# EAGLE library part NANO (library MECH223)
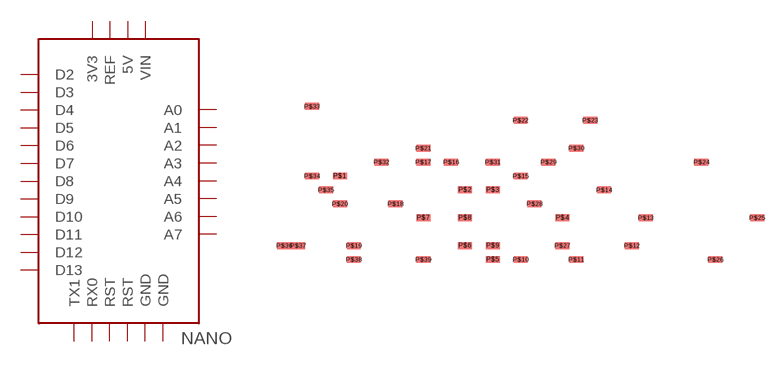
[diagram p1: symbol with the pads of IC; footprint IC]

Designator prefix -

## NANO  [IC]
P$1  3V3
P$2  5V
P$3  A0
P$4  A1
P$5  A2
P$6  A3
P$7  A4
P$8  A5
P$9  A6
P$10  A7
P$11  D2
P$12  D3
P$13  D4
P$14  D5
P$15  D6
P$16  D7
P$17  D8
P$18  D9
P$19  D10
P$20  D11
P$21  D12
P$22  D13
P$23  GND
P$24  GND
P$25  REF
P$26  RST
P$27  RST
P$28  RX0
P$29  TX1
P$30  VIN

## Footprint IC (pad centres in mm)
smd 1.27 x 0.635: P$1 -24.13,3.81; P$2 -12.7,2.54; P$3 -10.16,2.54; P$4 -3.81,0; P$5 -10.16,-3.81; P$6 -12.7,-2.54; P$7 -16.51,0; P$8 -12.7,0; P$9 -10.16,-2.54; P$10 -7.62,-3.81; P$11 -2.54,-3.81; P$12 2.54,-2.54; P$13 3.81,0; P$14 0,2.54; P$15 -7.62,3.81; P$16 -13.97,5.08; P$17 -16.51,5.08; P$18 -19.05,1.27; P$19 -22.86,-2.54; P$20 -24.13,1.27; P$21 -16.51,6.35; P$22 -7.62,8.89; P$23 -1.27,8.89; P$24 8.89,5.08; P$25 13.97,0; P$26 10.16,-3.81; P$27 -3.81,-2.54; P$28 -6.35,1.27; P$29 -5.08,5.08; P$30 -2.54,6.35; P$31 -10.16,5.08; P$32 -20.32,5.08; P$33 -26.67,10.16; P$34 -26.67,3.81; P$35 -25.4,2.54; P$36 -29.21,-2.54; P$37 -27.94,-2.54; P$38 -22.86,-3.81; P$39 -16.51,-3.81